# Altium schematic symbol library RT8209.SchLib: 1 symbol
Pins are listed as number, name and electrical type; pins without a type are passive.

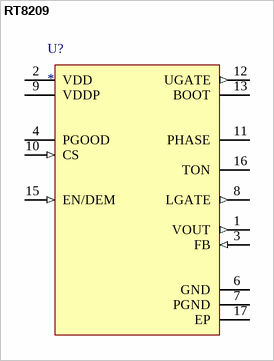
[diagram p0: symbol RT8209]

## RT8209
designator U?
Single Synchronous Buck Controller
footprint WQFN-16L (WQFN, 16-Leads, Body 3.00x3.00mm, Pitch 0.50mm, Thermal Pad 1.53x1.53mm, IPC Medium Density)
pins: 1 VOUT (out), 2 VDD (power), 3 FB (in), 4 PGOOD (oc), 6 GND (power), 7 PGND (power), 8 LGATE (out), 9 VDDP (power), 10 CS (in), 11 PHASE, 12 UGATE (out), 13 BOOT, 15 EN/DEM (in), 16 TON, 17 EP